# EAGLE library part TLC5940PWP (library DECADE)
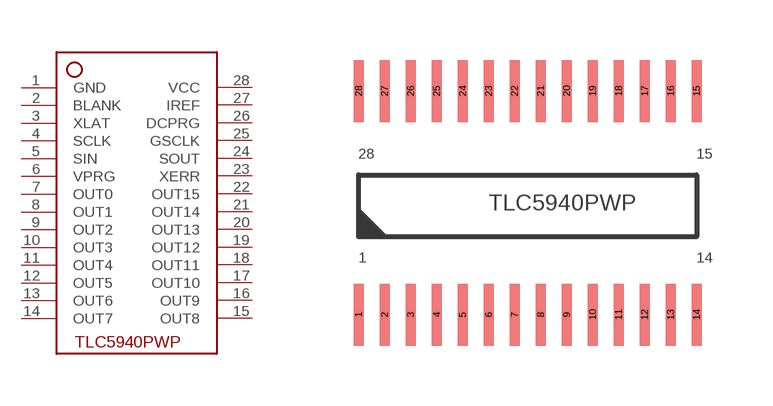
[diagram p1: symbol with the pads of PWP_G28; footprint PWP_G28]

Designator prefix -

## TLC5940PWP  [PWP_G28]
1  GND
2  BLANK
3  XLAT
4  SCLK
5  SIN
6  VPRG
7  OUT0
8  OUT1
9  OUT2
10  OUT3
11  OUT4
12  OUT5
13  OUT6
14  OUT7
15  OUT8
16  OUT9
17  OUT10
18  OUT11
19  OUT12
20  OUT13
21  OUT14
22  OUT15
23  XERR
24  SOUT
25  GSCLK
26  DCPRG
27  IREF
28  VCC

## Footprint PWP_G28 (pad centres in mm)
smd 0.25 x 1.55: 1 -3.9,-2.6; 2 -3.25,-2.6; 3 -2.6,-2.6; 4 -1.95,-2.6; 5 -1.3,-2.6; 6 -0.65,-2.6; 7 0,-2.6; 8 0.65,-2.6; 9 1.3,-2.6; 10 1.95,-2.6; 11 2.6,-2.6; 12 3.25,-2.6; 13 3.9,-2.6; 14 4.55,-2.6; 15 4.55,3; 16 3.9,3; 17 3.25,3; 18 2.6,3; 19 1.95,3; 20 1.3,3; 21 0.65,3; 22 0,3; 23 -0.65,3; 24 -1.3,3; 25 -1.95,3; 26 -2.6,3; 27 -3.25,3; 28 -3.9,3